# EAGLE library part M95M04-DRMN6TP (library M95M04-DRMN6TP)
EEPROM Serial-SPI 4M-bit 512K x 8 2.5V/3.3V/5V T/R Source: Datasheet <https://componentsearchengine.com/Datasheets/1/M95M04-DRMN6TP.pdf>
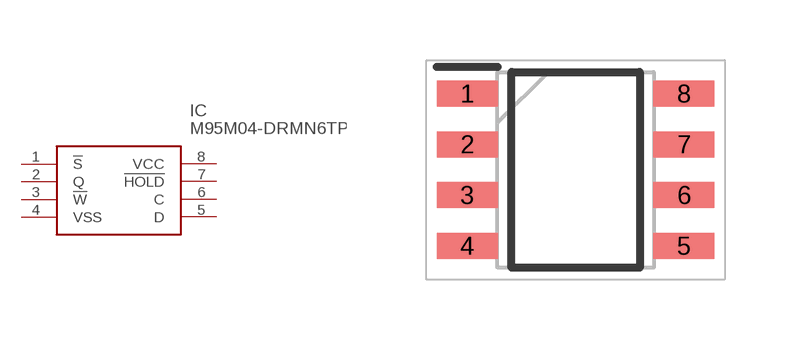
[diagram p0: symbol with the pads of SOIC127P600X175-8N; footprint SOIC127P600X175-8N]

Designator prefix IC

## M95M04-DRMN6TP (Arrow_Part_Number: M95M04-DRMN6TP; Arrow_Price-Stock: https://www.arrow.com/en/products/m95m04-drmn6tp/stmicroelectronics; Description: EEPROM Serial-SPI 4M-bit 512K x 8 2.5V/3.3V/5V T/R; Height: 1.75mm; Manufacturer_Name: STMicroelectronics; Manufacturer_Part_Number: M95M04-DRMN6TP; Mouser_Part_Number: 511-M95M04-DRMN6TP; Mouser_Price-Stock: https://www.mouser.co.uk/ProductDetail/STMicroelectronics/M95M04-DRMN6TP?qs=wnTfsH77Xs47afrs3bIJjQ%3D%3D)  [SOIC127P600X175-8N]
1  !S
2  Q
3  !W
4  VSS
5  D
6  C
7  !HOLD
8  VCC

## Footprint SOIC127P600X175-8N (pad centres in mm)
SO8N_
smd 1.525 x 0.65: 1 -2.712,1.905; 2 -2.712,0.635; 3 -2.712,-0.635; 4 -2.712,-1.905; 5 2.712,-1.905; 6 2.712,-0.635; 7 2.712,0.635; 8 2.712,1.905